# Altium schematic symbol library TNPW06031K00BEEA.SchLib: 1 symbol
Pins are listed as number, name and electrical type; pins without a type are passive.

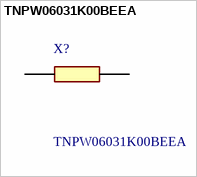
[diagram p0: symbol TNPW06031K00BEEA]

## TNPW06031K00BEEA
designator X?
Vishay 1k, 0603 (1608M) Thin Film SMD Resistor +/-0.1% 0.1W - TNPW06031K00BEEA; Geometry.Height: 0.55mm; Mouser Part Number: 71-TNPW06031K00BEEA; Mouser Price/Stock: https://www.mouser.co.uk/ProductDetail/Vishay-Dale/TNPW06031K00BEEA?qs=U8jWr0D8IJhJummGFaCE2g%3D%3D; Manufacturer_Name: Vishay; Manufacturer_Part_Number: TNPW06031K00BEEA; Datasheet Link: *
footprint RESC1608X55N
pins: 1, 2